# EAGLE library part LT3757 (library linear-technology)
SEPIC BOOST CONTROLLER
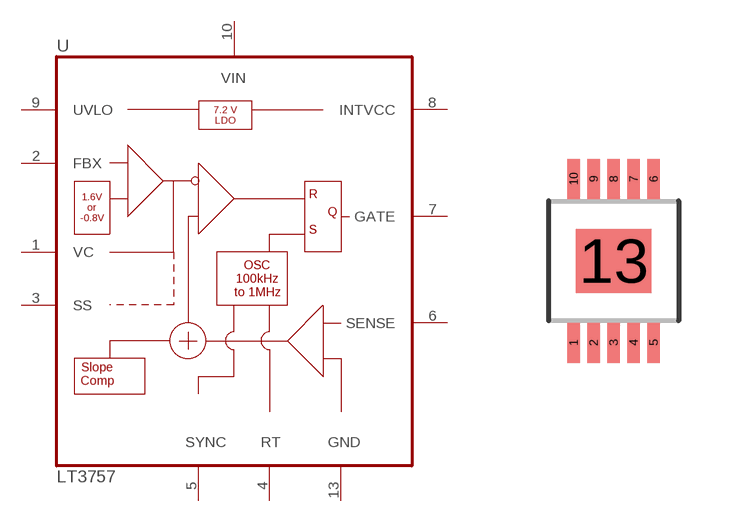
[diagram p59: symbol with the pads of MSOP10-MSE; footprint MSOP10-MSE]

Designator prefix U

## LT3757 (P1I: o)  [MSOP10-MSE]
1  VC  pas
2  FBX  in
3  SS  pas
4  RT  pas
5  SYNC  in
6  SENSE  in
7  GATE  out
8  INTVCC  pas
9  UVLO  in
10  VIN  pwr
13  GND  pwr

## Footprint MSOP10-MSE (pad centres in mm)
MSOP-10 MSE Package, Exposed Die Pad
smd 0.305 x 1: 1 -1,-2.05; 2 -0.5,-2.05; 3 0,-2.05; 4 0.5,-2.05; 5 1,-2.05; 6 1,2.05; 7 0.5,2.05; 8 0,2.05; 9 -0.5,2.05; 10 -1,2.05
smd 1.88 x 1.6: 13 0,0